# Altium schematic symbol library MCU.SchLib: 1 symbol
Pins are listed as number, name and electrical type; pins without a type are passive.

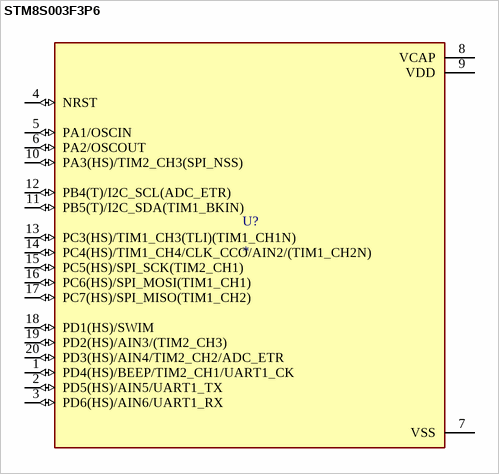
[diagram p0: symbol STM8S003F3P6]

## STM8S003F3P6
designator U?
STM8 series Microcontroller IC 8-Bit 16MHz 8KB (8K x 8) FLASH 20-TSSOP; MF: STMicroelectronics; MP: STM8S003F3P6; SnapEDA_Link: https://www.snapeda.com/parts/STM8S003F3P6/STMicroelectronics/view-part/?ref=snap; Package: TSSOP-20 STMicroelectronics; Value: *; Check_prices: https://www.snapeda.com/parts/STM8S003F3P6/STMicroelectronics/view-part/?ref=eda
footprint SOP-20 (SOP65P640X120-20N)
pins: 1 PD4(HS)/BEEP/TIM2_CH1/UART1_CK (io), 2 PD5(HS)/AIN5/UART1_TX (io), 3 PD6(HS)/AIN6/UART1_RX (io), 4 NRST (io), 5 PA1/OSCIN (io), 6 PA2/OSCOUT (io), 7 VSS (power), 8 VCAP (power), 9 VDD (power), 10 PA3(HS)/TIM2_CH3(SPI_NSS) (io), 11 PB5(T)/I2C_SDA(TIM1_BKIN) (io), 12 PB4(T)/I2C_SCL(ADC_ETR) (io), 13 PC3(HS)/TIM1_CH3(TLI)(TIM1_CH1N) (io), 14 PC4(HS)/TIM1_CH4/CLK_CCO/AIN2/(TIM1_CH2N) (io), 15 PC5(HS)/SPI_SCK(TIM2_CH1) (io), 16 PC6(HS)/SPI_MOSI(TIM1_CH1) (io), 17 PC7(HS)/SPI_MISO(TIM1_CH2) (io), 18 PD1(HS)/SWIM (io), 19 PD2(HS)/AIN3/(TIM2_CH3) (io), 20 PD3(HS)/AIN4/TIM2_CH2/ADC_ETR (io)